# Altium footprint library IMR_LIB_PCB.PcbLib: 119 footprints (part 6 of 8)
Each footprint in its own frame and in the unit in brackets; x right, y up, seen from the top. Pads: shape width x height; smd on the part's side, far side on the other; paste and mask are expansions set on the pad; w line width, h text height; cw(c..) or ccw(c..) is an arc to the next point about the centre after c.
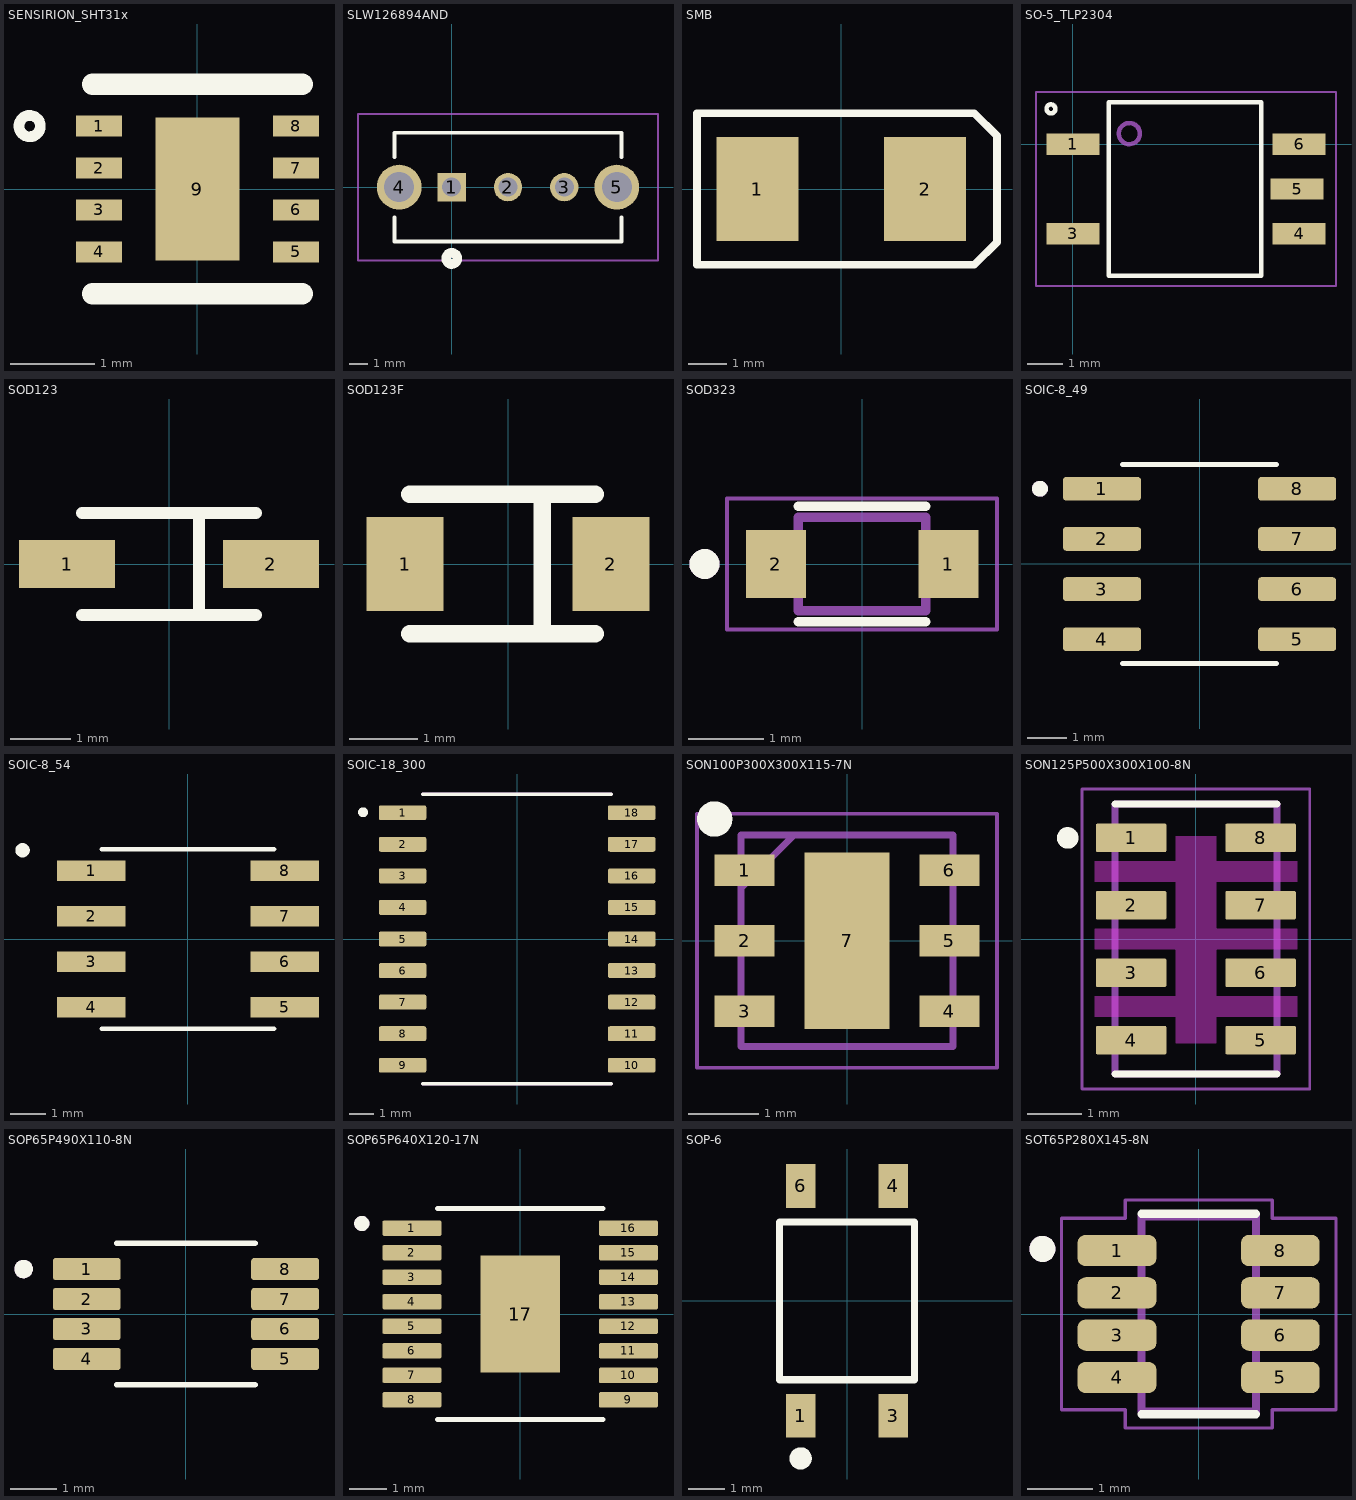
[diagram p5: the footprints below, top view; thin cyan lines are the x and y axes]

## SENSIRION_SHT31x [mm] "Sensirion Temp Humidity Sensor"
height 1
pads (9):
  rect 0.55x0.25 smd: 1(-1.175,0.75) 2(-1.175,0.25) 3(-1.175,-0.25) 4(-1.175,-0.75) 5(1.175,-0.75) 6(1.175,-0.25) 7(1.175,0.25) 8(1.175,0.75)
  rect 1x1.7 smd: 9(0,0)
Top Overlay:
  circle w0.127: c-2,0.75 r0.127
  lines w0.254: -1.25,-1.25 1.25,-1.25 ; -1.25,1.25 1.25,1.25
3D body: height 0.9, standoff -0.01, extent -1.26,-1.25 1.26,1.25

## SLW126894AND [mm]
pads (5):
  rect 1.515x1.515 hole 1.01: 1(0,0)
  round 1.515 hole 1.01: 2(3,0) 3(6,0)
  round 2.385 hole 1.59: 4(-2.8,0) 5(8.8,0)
Top Overlay:
  circle w0.508: c0,-3.8 r0.3
  lines w0.2: -3.05,-1.6 -3.05,-2.9 9.05,-2.9 9.05,-1.6 ; -3.05,1.6 -3.05,2.9 9.05,2.9 9.05,1.6
Courtyard Top:
  lines w0.1: -3.05,-2.9 9.05,-2.9 ; -3.05,2.9 9.05,2.9
Test Points Bottom:
  lines w0.1: -4.992,-3.9 10.992,-3.9 10.992,3.9 -4.992,3.9 -4.992,-3.9
3D body: height 10.05, standoff -2.85, extent -3.05,-2.9 9.05,2.9

## SMB [mm] "DIODE SCHOTTKY 40V 1A SMB"
height 1.95
pads (2):
  rect 2.159x2.743 smd: 1(-2.21,0) 2(2.21,0)
Top Overlay:
  lines w0.2: -3.8,-2 -3.8,2 3.5,2 4.1,1.4 4.1,-1.4 3.5,-2 -3.8,-2
3D body: height 2.31, standoff 2.3, extent 1.2,-2 1.9,2
3D body: height 2.3, standoff 0, extent -2.5,-2 2.5,2
3D body: height 1.52, standoff 0, extent 2.5,-1 3,1
3D body: height 1.52, standoff 0, extent -3,-1 -2.5,1

## SO-5_TLP2304 [mm] "SO-5 PACKAGE TLP2304 PIN OUT"
height 2.3
pads (5):
  rect 1.5x0.6 smd: 1(0,0) 3(0,-2.54) 4(6.41,-2.54) 5(6.35,-1.27) 6(6.41,0)
Top Overlay:
  circle w0.127: c-0.621,1 r0.127
  lines w0.127: 1.016,-3.73 5.334,-3.73 5.334,1.19 1.016,1.19 1.016,-3.73
3D Top:
  circle w0.127: c1.6,0.3 r0.3
Courtyard Top:
  lines w0.05: -1.045,-4.02 7.455,-4.02 7.455,1.48 -1.045,1.48 -1.045,-4.02
3D body: height 2.09, standoff 0.01, extent -0.115,-3.52 6.525,1.027

## SOD123 [mm] "SOD123"
height 1.35
pads (2):
  rect 1.6x0.8 smd: 1(-1.7,0) 2(1.7,0)
Top Overlay:
  lines w0.2: -1.45,-0.85 1.45,-0.85 ; -1.45,0.85 1.45,0.85 ; 0.5,-0.85 0.5,0.85
3D body: height 1.27, standoff 0, extent -1.85,-0.8 1.85,0.8

## SOD123F [mm]
height 1.5
pads (2):
  rect 1.12x1.37 smd: 1(-1.5,0) 2(1.5,0)
Top Overlay:
  lines w0.254: -1.43,-1.016 1.27,-1.016 ; -1.43,1.016 1.27,1.016 ; 0.5,-1.016 0.5,1
3D body: height 1, standoff 0, extent -1.75,-0.9 1.75,0.9

## SOD323 [mm] "SOD323"
height 1.15
pads (2):
  rect 0.8x0.9 smd: 1(1.15,0) 2(-1.15,0)
Top Overlay:
  circle w0.2: c-2.1,0 r0.1
  lines w0.127: -0.85,-0.77 0.85,-0.77 ; -0.85,0.77 0.85,0.77
3D Top:
  circle w0.2: c-2.1,0 r0.1
  lines w0.127: -0.85,-0.625 0.85,-0.625 0.85,0.625 -0.85,0.625 -0.85,-0.625
Courtyard Top:
  lines w0.05: -1.8,-0.875 -1.8,0.875 1.8,0.875 1.8,-0.875 -1.8,-0.875
3D body: height 1.1, standoff 0, extent -1.3,-0.675 1.3,0.675

## SOIC-8_49 [mm] "SOIC 8 PIN IC 4.9mm PIN TO PIN WIDTH"
height 1.75
pads (8):
  rrect25% 1.97x0.6 smd: 1(-2.47,1.905) 2(-2.47,0.635) 3(-2.47,-0.635) 4(-2.47,-1.905) 5(2.47,-1.905) 6(2.47,-0.635) 7(2.47,0.635) 8(2.47,1.905)
Top Overlay:
  circle w0.2: c-4.04,1.905 r0.1
  lines w0.127: -1.95,-2.525 1.95,-2.525 ; -1.95,2.525 1.95,2.525
3D Top:
  circle w0.2: c-4.04,1.905 r0.1
3D body: height 1.75, standoff 0, extent -3,-2.45 3,2.45

## SOIC-8_54 [mm] "SOIC 8 PIN IC 5.4mm PIN TO PIN WIDTH"
height 1.75
pads (8):
  rect 1.91x0.57 smd: 1(-2.7,1.905) 2(-2.7,0.635) 3(-2.7,-0.635) 4(-2.7,-1.905) 5(2.7,-1.905) 6(2.7,-0.635) 7(2.7,0.635) 8(2.7,1.905)
Top Overlay:
  circle w0.2: c-4.61,2.475 r0.1
  lines w0.127: -2.4,-2.5 2.4,-2.5 ; -2.4,2.5 2.4,2.5
3D body: height 1.75, standoff -0.01, extent -3.1,-2.5 3.1,2.5

## SOIC-18_300 [mm] "SOIC 18P 300MIL BODY WIDTH"
pads (18):
  rrect25% 1.91x0.6 smd: 1(-4.61,5.08) 2(-4.61,3.81) 3(-4.61,2.54) 4(-4.61,1.27) 5(-4.61,0) 6(-4.61,-1.27) 7(-4.61,-2.54) 8(-4.61,-3.81) 9(-4.61,-5.08) 10(4.61,-5.08) 11(4.61,-3.81) 12(4.61,-2.54) 13(4.61,-1.27) 14(4.61,0) 15(4.61,1.27) 16(4.61,2.54) 17(4.61,3.81) 18(4.61,5.08)
Top Overlay:
  circle w0.2: c-6.2,5.1 r0.1
  lines w0.127: -3.8,-5.825 3.8,-5.825 ; -3.8,5.825 3.8,5.825
3D Top:
  lines w0.127: -3.8,-5.825 3.8,-5.825 ; -3.8,5.825 3.8,5.825
3D body: height 2.65, standoff 0, extent -5.15,-5.775 5.15,5.775

## SON100P300X300X115-7N [mm]
pads (7):
  rect 0.85x0.45 smd: 1(-1.45,1) 2(-1.45,0) 3(-1.45,-1) 4(1.45,-1) 5(1.45,0) 6(1.45,1)
  rect 1.2x2.5 smd: 7(0,0)
Top Overlay:
  circle w0.25: c-1.875,1.725 r0.125
Assembly Top:
  lines w0.05: -2.125,-1.8 -2.125,1.8 2.125,1.8 2.125,-1.8 -2.125,-1.8
  lines w0.1: -1.5,0.75 -0.75,1.5 ; -1.5,-1.5 -1.5,1.5 1.5,1.5 1.5,-1.5 -1.5,-1.5
3D body: height 0.8, standoff 0, extent -1.55,-1.5 1.55,1.5

## SON125P500X300X100-8N [mm]
pads (8):
  rrect13% 1.31x0.53 smd: 1(-1.2,1.875) 2(-1.2,0.625) 3(-1.2,-0.625) 4(-1.2,-1.875) 5(1.2,-1.875) 6(1.2,-0.625) 7(1.2,0.625) 8(1.2,1.875)
Top Overlay:
  circle w0.2: c-2.377,1.873 r0.1
  lines w0.127: -1.5,-2.5 1.5,-2.5 ; -1.5,2.5 1.5,2.5
Keep-Out Layer:
  region: 0.381,-1.935 -0.375,-1.935 -0.375,1.905 0.381,1.905
  region: 0.381,-1.935 -0.375,-1.935 -0.375,1.905 0.381,1.905
  region: 0.381,-1.935 -0.375,-1.935 -0.375,1.905 0.381,1.905
  region: 1.875,-1.439 -1.877,-1.439 -1.877,-1.062 1.875,-1.062
  region: 1.875,-1.44 -1.878,-1.44 -1.878,-1.062 1.875,-1.062
  region: 1.875,-1.44 -1.878,-1.44 -1.878,-1.062 1.875,-1.062
  region: 1.875,-0.188 -1.877,-0.188 -1.877,0.188 1.875,0.188
  region: 1.875,-0.188 -1.878,-0.188 -1.878,0.188 1.875,0.188
  region: 1.875,-0.188 -1.878,-0.188 -1.878,0.188 1.875,0.188
  region: 1.875,1.063 -1.876,1.063 -1.876,1.438 1.875,1.438
  region: 1.875,1.064 -1.878,1.064 -1.878,1.438 1.875,1.438
  region: 1.875,1.063 -1.875,1.063 -1.875,1.438 1.875,1.438
3D Top:
  circle w0.2: c-0.877,1.873 r0.1
  lines w0.127: -1.5,-2.5 1.5,-2.5 1.5,2.5 -1.5,2.5 -1.5,-2.5
Courtyard Top:
  lines w0.05: -2.11,-2.78 2.11,-2.78 2.11,2.78 -2.11,2.78 -2.11,-2.78
3D body: height 1.02, standoff -0.01, extent -1.5,-2.5 1.5,2.5

## SOP65P490X110-8N [mm] "VSSOP-8"
height 2.54
pads (8):
  rrect25% 1.47x0.48 smd: 1(-2.15,0.975) 2(-2.15,0.325) 3(-2.15,-0.325) 4(-2.15,-0.975) 5(2.15,-0.975) 6(2.15,-0.325) 7(2.15,0.325) 8(2.15,0.975)
Top Overlay:
  circle w0.2: c-3.52,0.975 r0.1
  lines w0.127: -1.5,-1.535 1.5,-1.535 ; -1.5,1.535 1.5,1.535
3D Top:
  circle w0.2: c-3.52,0.975 r0.1
3D body: height 1.1, standoff 0, extent -2.45,-1.5 2.45,1.5

## SOP65P640X120-17N [mm]
pads (17):
  rrect25% 1.57x0.41 smd: 1(-2.87,2.275) 2(-2.87,1.625) 3(-2.87,0.975) 4(-2.87,0.325) 5(-2.87,-0.325) 6(-2.87,-0.975) 7(-2.87,-1.625) 8(-2.87,-2.275) 9(2.87,-2.275) 10(2.87,-1.625) 11(2.87,-0.975) 12(2.87,-0.325) 13(2.87,0.325) 14(2.87,0.975) 15(2.87,1.625) 16(2.87,2.275)
  rect 2.105x3.115 smd paste-3: 17(0,0)
Top Overlay:
  circle w0.2: c-4.2,2.4 r0.1
  lines w0.127: -2.2,-2.8 2.2,-2.8 ; -2.2,2.8 2.2,2.8
Top Paste:
  region: 0.666,-0.985 -0.666,-0.985 -0.666,0.985 0.666,0.985
3D Top:
  circle w0.2: c-4.2,2.4 r0.1
3D body: height 1.2, standoff 0, extent -3.2,-2.5 3.2,2.5

## SOP-6 [mil]
height 118.11
pads (4):
  rect 31.5x47.24 smd: 1(-50,-124.02) 3(50,-124.02) 4(50,124.02) 6(-50,124.02)
Top Overlay:
  circle w12: c-50,-170 r6
  lines w7.87: -72.83,-85 72.83,-85 72.83,85 -72.83,85 -72.83,-85
3D body: height 86.61, standoff 0, extent -72.83,-137.79 72.84,137.8

## SOT65P280X145-8N [mm]
pads (8):
  rrect50% 1.21x0.48 smd: 1(-1.255,0.975) 2(-1.255,0.325) 3(-1.255,-0.325) 4(-1.255,-0.975) 5(1.255,-0.975) 6(1.255,-0.325) 7(1.255,0.325) 8(1.255,0.975)
Top Overlay:
  circle w0.2: c-2.4,1 r0.1
  lines w0.127: -0.88,-1.54 0.88,-1.54 ; -0.88,1.54 0.88,1.54
3D Top:
  circle w0.2: c-2.4,1 r0.1
  lines w0.127: -0.88,-1.5 -0.88,1.5 0.88,1.5 0.88,-1.5 -0.88,-1.5
Courtyard Top:
  lines w0.05: -2.11,-1.47 -1.13,-1.47 -1.13,-1.75 1.13,-1.75 1.13,-1.47 2.11,-1.47 2.11,1.47 1.13,1.47 1.13,1.75 -1.13,1.75 -1.13,1.47 -2.11,1.47 -2.11,-1.47
3D body: height 1.1, standoff 0, extent -1.475,-1.475 1.475,1.475